# EAGLE library part 3-794626-6 (library con-tyco-micro-mate-n-lok)
MALE CONNECTOR Mini-Universal MATE-N-LOK
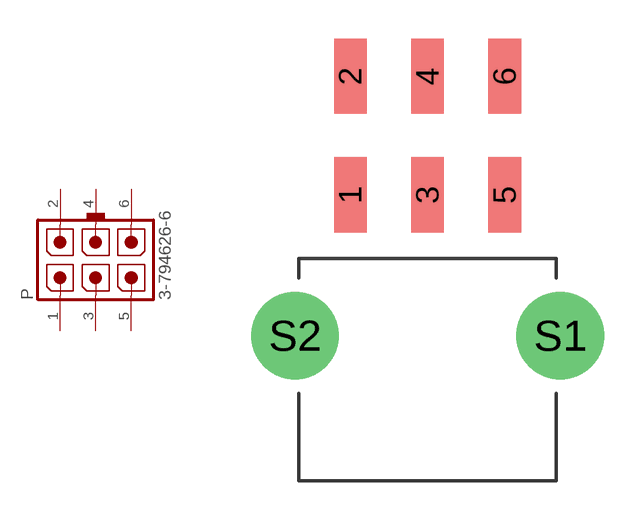
[diagram p0: symbol with the pads of 3-794626-6; footprint 3-794626-6]

Designator prefix P

## 3-794626-6 (DIGIKEY: 3-794626-6-ND)  [3-794626-6]
1  3  pas
2  6  pas
3  2  pas
4  5  pas
5  1  pas
6  4  pas

## Footprint 3-794626-6 (pad centres in mm)
MALE CONNECTOR Micro MATE-N-LOK
smd 1.27 x 2.92: 1 -3,5.48; 2 -3,10.1; 3 0,5.48; 4 0,10.1; 5 3,5.48; 6 3,10.1
drill 2.4: S1 5.15,0; S2 -5.15,0